# EAGLE library part TEENSY_LC (library BMO)
Teensy LC sparse layout
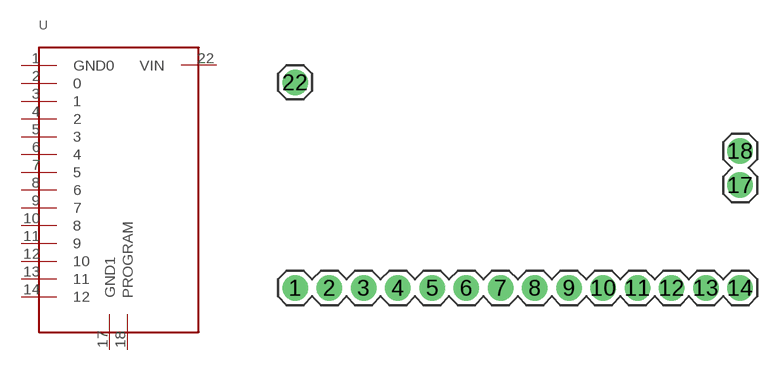
[diagram p0: symbol with the pads of TEENSY_LC; footprint TEENSY_LC]

Designator prefix U

## TEENSY_LC  [TEENSY_LC]
1  GND0
2  0
3  1
4  2
5  3
6  4
7  5
8  6
9  7
10  8
11  9
12  10
13  11
14  12
17  GND1
18  PROGRAM
22  VIN

## Footprint TEENSY_LC (pad centres in mm)
drill 1.016 pad 1.88: 1 0,0; 2 2.54,0; 3 5.08,0; 4 7.62,0; 5 10.16,0; 6 12.7,0; 7 15.24,0; 8 17.78,0; 9 20.32,0; 10 22.86,0; 11 25.4,0; 12 27.94,0; 13 30.48,0; 14 33.02,0; 17 33.02,7.62; 18 33.02,10.16; 22 0,15.24